# Altium integrated library WE-SCC_rev15a.intlib: 10 symbols
Pins are listed as number, name and electrical type; pins without a type are passive.

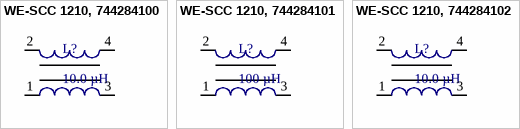
[diagram p0: symbols WE-SCC 1210, 744284100 to WE-SCC 1210, 744284102]

## WE-SCC 1210, 744284100
designator L?, comment 10.0 µH
SMD Common Mode Line Filter WE-SCC, L=10.0 µH; partNo: 744284100; Manufacturer: Würth Elektronik eiSos GmbH; Inductance: 10.0 µH; ComponentLink1Description: Manufacturer; ComponentLink1URL: http://www.we-online.de; Created by: Christin Zierenner; Created Date: March 2012; ComponentLink2Description: Datasheet; ComponentLink2URL: http://www.we-online.de/katalog/media/pdf/744284100.pdf
footprint WE-SCC 1210 (SMD Inductor,  4-Leads, Body 12,5x12,5mm (max))
pins: 1, 2, 3, 4

## WE-SCC 1210, 744284101
designator L?, comment 100 µH
SMD Common Mode Line Filter WE-SCC, L=100 µH; partNo: 744284101; Manufacturer: Würth Elektronik eiSos GmbH; Inductance: 100 µH; ComponentLink1Description: Manufacturer; ComponentLink1URL: http://www.we-online.de; Created by: Christin Zierenner; Created Date: March 2012; ComponentLink2Description: Datasheet; ComponentLink2URL: http://www.we-online.de/katalog/media/pdf/744284101.pdf
footprint WE-SCC 1210 (SMD Inductor,  4-Leads, Body 12,5x12,5mm (max))
pins: 1, 2, 3, 4

## WE-SCC 1210, 744284102
designator L?, comment 10.0 µH
SMD Common Mode Line Filter WE-SCC, L=1000 µH; partNo: 744284102; Manufacturer: Würth Elektronik eiSos GmbH; Inductance: 10.0 µH; ComponentLink1Description: Manufacturer; ComponentLink1URL: http://www.we-online.de; Created by: Christin Zierenner; Created Date: March 2012; ComponentLink2Description: Datasheet; ComponentLink2URL: http://www.we-online.de/katalog/media/pdf/744284102.pdf
footprint WE-SCC 1210 (SMD Inductor,  4-Leads, Body 12,5x12,5mm (max))
pins: 1, 2, 3, 4


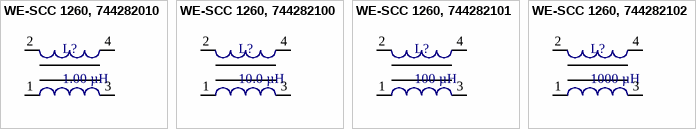
[diagram p1: symbols WE-SCC 1260, 744282010 to WE-SCC 1260, 744282102]

## WE-SCC 1260, 744282010
designator L?, comment 1.00 µH
SMD Common Mode Line Filter WE-SCC, L=1.00 µH; partNo: 744282010; Manufacturer: Würth Elektronik eiSos GmbH; Inductance: 1.00 µH; ComponentLink1Description: Manufacturer; ComponentLink1URL: http://www.we-online.de; Created by: Christin Zierenner; Created Date: March 2012; ComponentLink2Description: Datasheet; ComponentLink2URL: http://www.we-online.de/katalog/media/pdf/744282010.pdf
footprint WE-SCC 1260 (SMD Inductor,  4-Leads, Body 12,5x12,5mm (max))
pins: 1, 2, 3, 4

## WE-SCC 1260, 744282100
designator L?, comment 10.0 µH
SMD Common Mode Line Filter WE-SCC, L=10.0 µH; partNo: 744282100; Manufacturer: Würth Elektronik eiSos GmbH; Inductance: 10.0 µH; ComponentLink1Description: Manufacturer; ComponentLink1URL: http://www.we-online.de; Created by: Christin Zierenner; Created Date: March 2012; ComponentLink2Description: Datasheet; ComponentLink2URL: http://www.we-online.de/katalog/media/pdf/744282100.pdf
footprint WE-SCC 1260 (SMD Inductor,  4-Leads, Body 12,5x12,5mm (max))
pins: 1, 2, 3, 4

## WE-SCC 1260, 744282101
designator L?, comment 100 µH
SMD Common Mode Line Filter WE-SCC, L=100 µH; partNo: 744282101; Manufacturer: Würth Elektronik eiSos GmbH; Inductance: 100 µH; ComponentLink1Description: Manufacturer; ComponentLink1URL: http://www.we-online.de; Created by: Christin Zierenner; Created Date: March 2012; ComponentLink2Description: Datasheet; ComponentLink2URL: http://www.we-online.de/katalog/media/pdf/744282101.pdf
footprint WE-SCC 1260 (SMD Inductor,  4-Leads, Body 12,5x12,5mm (max))
pins: 1, 2, 3, 4

## WE-SCC 1260, 744282102
designator L?, comment 1000 µH
SMD Common Mode Line Filter WE-SCC, L=1000 µH; partNo: 744282102; Manufacturer: Würth Elektronik eiSos GmbH; Inductance: 1000 µH; ComponentLink1Description: Manufacturer; ComponentLink1URL: http://www.we-online.de; Created by: Christin Zierenner; Created Date: March 2012; ComponentLink2Description: Datasheet; ComponentLink2URL: http://www.we-online.de/katalog/media/pdf/744282102.pdf
footprint WE-SCC 1260 (SMD Inductor,  4-Leads, Body 12,5x12,5mm (max))
pins: 1, 2, 3, 4


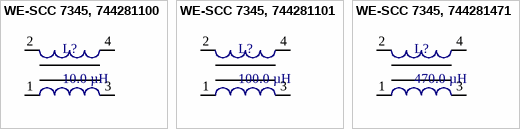
[diagram p2: symbols WE-SCC 7345, 744281100 to WE-SCC 7345, 744281471]

## WE-SCC 7345, 744281100
designator L?, comment 10.0 µH
SMD Common Mode Line Filter WE-SCC, L=10.0 µH; partNo: 744281100; Manufacturer: Würth Elektronik eiSos GmbH; Inductance: 10.0 µH; ComponentLink1Description: Manufacturer; ComponentLink1URL: http://www.we-online.de; Created by: Christin Zierenner; Created Date: March 2012; ComponentLink2Description: Datasheet; ComponentLink2URL: http://www.we-online.de/katalog/media/pdf/744281100.pdf
footprint WE-SCC 7345 (SMD Inductor,  4-Leads, Body 7,7x7,7mm (max))
pins: 1, 2, 3, 4

## WE-SCC 7345, 744281101
designator L?, comment 100.0 µH
SMD Common Mode Line Filter WE-SCC, L=100.0 µH; partNo: 744281101; Manufacturer: Würth Elektronik eiSos GmbH; Inductance: 100.0 µH; ComponentLink1Description: Manufacturer; ComponentLink1URL: http://www.we-online.de; Created by: Christin Zierenner; Created Date: March 2012; ComponentLink2Description: Datasheet; ComponentLink2URL: http://www.we-online.de/katalog/media/pdf/744281101.pdf
footprint WE-SCC 7345 (SMD Inductor,  4-Leads, Body 7,7x7,7mm (max))
pins: 1, 2, 3, 4

## WE-SCC 7345, 744281471
designator L?, comment 470.0 µH
SMD Common Mode Line Filter WE-SCC, L=470.0 µH; partNo: 744281471; Manufacturer: Würth Elektronik eiSos GmbH; Inductance: 470.0 µH; ComponentLink1Description: Manufacturer; ComponentLink1URL: http://www.we-online.de; Created by: Christin Zierenner; Created Date: March 2012; ComponentLink2Description: Datasheet; ComponentLink2URL: http://www.we-online.de/katalog/media/pdf/744281471.pdf
footprint WE-SCC 7345 (SMD Inductor,  4-Leads, Body 7,7x7,7mm (max))
pins: 1, 2, 3, 4